# Altium footprint library SML-P11_SERIES.PcbLib: 4 footprints
Each footprint in its own frame and in the unit in brackets; x right, y up, seen from the top. Pads: shape width x height; smd on the part's side, far side on the other; paste and mask are expansions set on the pad; w line width, h text height; cw(c..) or ccw(c..) is an arc to the next point about the centre after c.
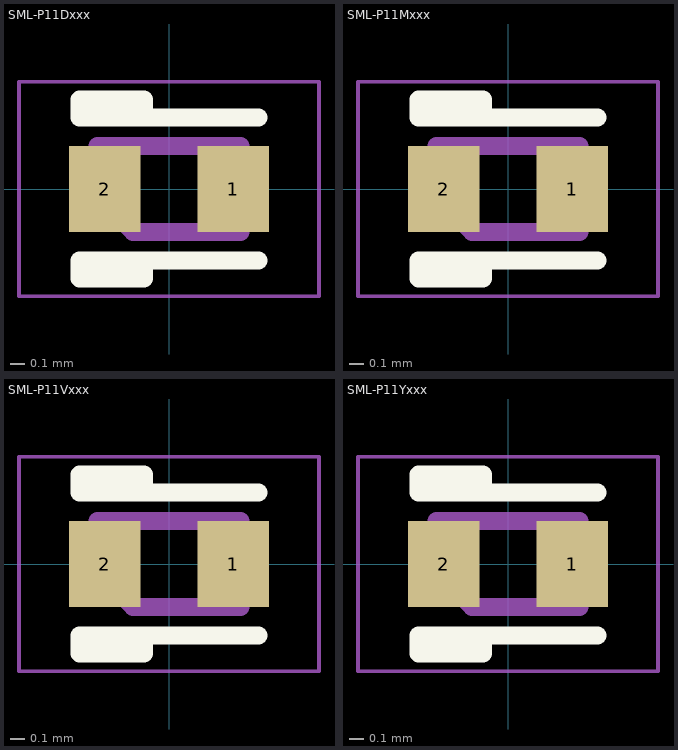
[diagram p0: the footprints below, top view; thin cyan lines are the x and y axes]

## SML-P11Dxxx [mm]
height 0.2
pads (2):
  rect 0.5x0.6 smd paste-0.18: 1(0.45,0) 2(-0.45,0)
Top Overlay:
  lines w0.127: -0.175,-0.5 -0.175,-0.625 -0.625,-0.625 -0.625,-0.5 0.625,-0.5 ; -0.175,0.5 -0.175,0.625 -0.625,0.625 -0.625,0.5 0.625,0.5
Assembly Dwg - Top:
  text ".Designator" at -0.75,-0.25 h0.76
Comp Assy Info - Top:
  lines w0.127: -0.5,-0.05 -0.5,0.3 0.5,0.3 0.5,-0.3 -0.25,-0.3 -0.5,-0.05
Courtyards/Models - Top:
  lines w0.025: -1.05,-0.75 -1.05,0.75 1.05,0.75 1.05,-0.75 -1.05,-0.75
3D body: height 0.2, standoff 0, extent -0.5,-0.3 0.5,0.3

## SML-P11Mxxx [mm]
height 0.2
pads (2):
  rect 0.5x0.6 smd paste-0.18: 1(0.45,0) 2(-0.45,0)
Top Overlay:
  lines w0.127: -0.175,-0.5 -0.175,-0.625 -0.625,-0.625 -0.625,-0.5 0.625,-0.5 ; -0.175,0.5 -0.175,0.625 -0.625,0.625 -0.625,0.5 0.625,0.5
Assembly Dwg - Top:
  text ".Designator" at -0.75,-0.25 h0.76
Comp Assy Info - Top:
  lines w0.127: -0.5,-0.05 -0.25,-0.3 0.5,-0.3 0.5,0.3 -0.5,0.3 -0.5,-0.05
Courtyards/Models - Top:
  lines w0.025: -1.05,-0.75 1.05,-0.75 1.05,0.75 -1.05,0.75 -1.05,-0.75
3D body: height 0.2, standoff 0, extent -0.5,-0.3 0.5,0.3

## SML-P11Vxxx [mm]
height 0.2
pads (2):
  rect 0.5x0.6 smd paste-0.18: 1(0.45,0) 2(-0.45,0)
Top Overlay:
  lines w0.127: -0.175,-0.5 -0.175,-0.625 -0.625,-0.625 -0.625,-0.5 0.625,-0.5 ; -0.175,0.5 -0.175,0.625 -0.625,0.625 -0.625,0.5 0.625,0.5
Assembly Dwg - Top:
  text ".Designator" at -0.75,-0.25 h0.76
Comp Assy Info - Top:
  lines w0.127: -0.5,-0.05 -0.5,0.3 0.5,0.3 0.5,-0.3 -0.25,-0.3 -0.5,-0.05
Courtyards/Models - Top:
  lines w0.025: -1.05,-0.75 -1.05,0.75 1.05,0.75 1.05,-0.75 -1.05,-0.75
3D body: height 0.2, standoff 0, extent -0.5,-0.3 0.5,0.3

## SML-P11Yxxx [mm]
height 0.2
pads (2):
  rect 0.5x0.6 smd paste-0.18: 1(0.45,0) 2(-0.45,0)
Top Overlay:
  lines w0.127: -0.175,-0.5 -0.175,-0.625 -0.625,-0.625 -0.625,-0.5 0.625,-0.5 ; -0.175,0.5 -0.175,0.625 -0.625,0.625 -0.625,0.5 0.625,0.5
Assembly Dwg - Top:
  text ".Designator" at -0.75,-0.25 h0.76
Comp Assy Info - Top:
  lines w0.127: -0.5,-0.05 -0.5,0.3 0.5,0.3 0.5,-0.3 -0.25,-0.3 -0.5,-0.05
Courtyards/Models - Top:
  lines w0.025: -1.05,-0.75 -1.05,0.75 1.05,0.75 1.05,-0.75 -1.05,-0.75
3D body: height 0.2, standoff 0, extent -0.5,-0.3 0.5,0.3